# EAGLE library part MOLEX_54132_3662 (library NicksParts)
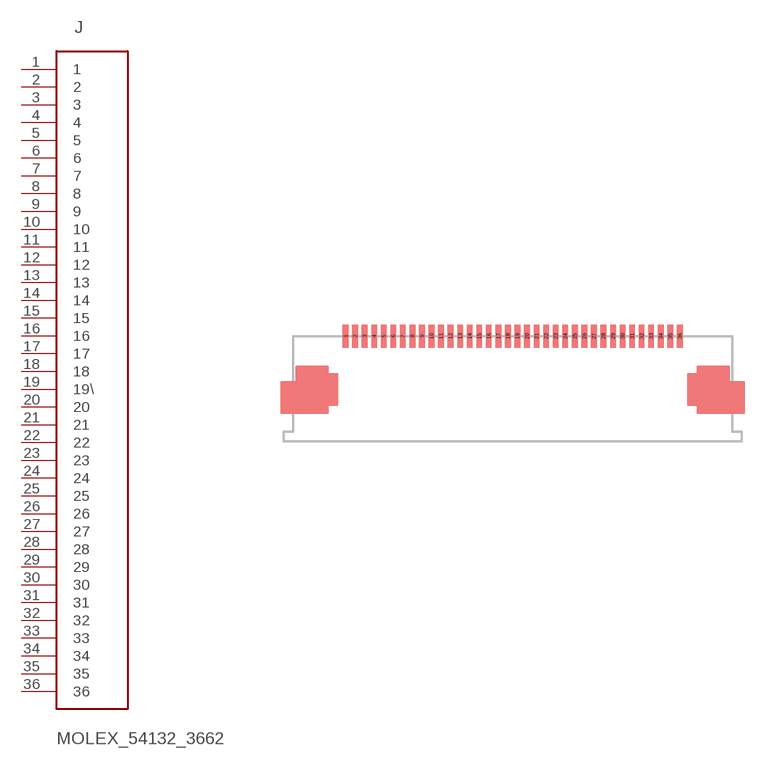
[diagram p10: symbol with the pads of MOLEX_54132_3662; footprint MOLEX_54132_3662]

Designator prefix J

## MOLEX_54132_3662  [MOLEX_54132_3662]
1  1
2  2
3  3
4  4
5  5
6  6
7  7
8  8
9  9
10  10
11  11
12  12
13  13
14  14
15  15
16  16
17  17
18  18
19  19\
20  20
21  21
22  22
23  23
24  24
25  25
26  26
27  27
28  28
29  29
30  30
31  31
32  32
33  33
34  34
35  35
36  36

## Footprint MOLEX_54132_3662 (pad centres in mm)
smd 0.3 x 1.2: 1 -8.75,2.5; 2 -8.25,2.5; 3 -7.75,2.5; 4 -7.25,2.5; 5 -6.75,2.5; 6 -6.25,2.5; 7 -5.75,2.5; 8 -5.25,2.5; 9 -4.75,2.5; 10 -4.25,2.5; 11 -3.75,2.5; 12 -3.25,2.5; 13 -2.75,2.5; 14 -2.25,2.5; 15 -1.75,2.5; 16 -1.25,2.5; 17 -0.75,2.5; 18 -0.25,2.5; 19 0.25,2.5; 20 0.75,2.5; 21 1.25,2.5; 22 1.75,2.5; 23 2.25,2.5; 24 2.75,2.5; 25 3.25,2.5; 26 3.75,2.5; 27 4.25,2.5; 28 4.75,2.5; 29 5.25,2.5; 30 5.75,2.5; 31 6.25,2.5; 32 6.75,2.5; 33 7.25,2.5; 34 7.75,2.5; 35 8.25,2.5; 36 8.75,2.5